# Altium footprint library Socket.PcbLib: 3 footprints
Each footprint in its own frame and in the unit in brackets; x right, y up, seen from the top. Pads: shape width x height; smd on the part's side, far side on the other; paste and mask are expansions set on the pad; w line width, h text height; cw(c..) or ccw(c..) is an arc to the next point about the centre after c.
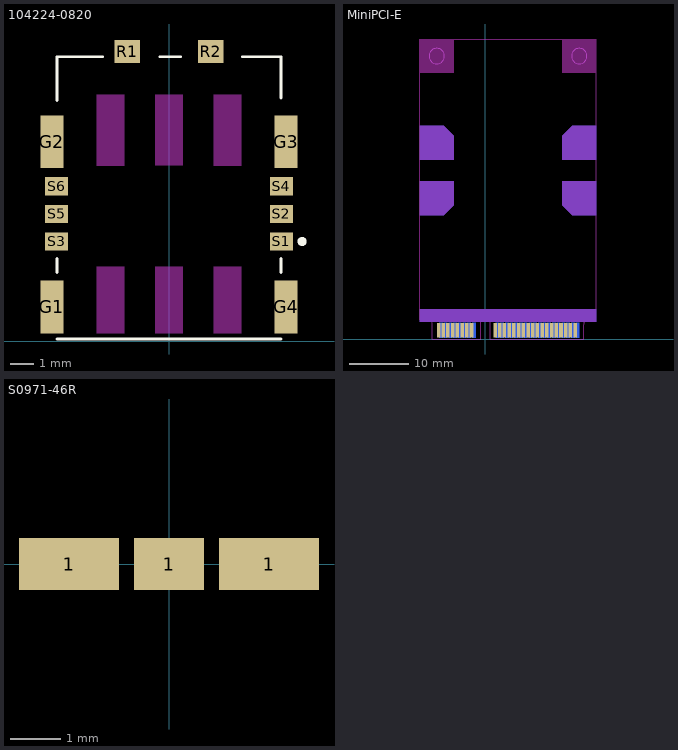
[diagram p0: the footprints below, top view; thin cyan lines are the x and y axes]

## 104224-0820 [mm]
pads (12):
  rect 1x2.3 smd: G1(-5.1,1.5) G2(-5.1,8.7) G3(5.1,8.7) G4(5.1,1.5)
  rect 1.1x1 smd: R1(-1.82,12.625) R2(1.82,12.625)
  rect 1x0.8 smd: S1(4.9,4.35) S2(4.9,5.55) S3(-4.9,4.35) S4(4.9,6.75) S5(-4.9,5.55) S6(-4.9,6.75)
Top Layer keep-out:
  region: 3.14,7.652 1.94,7.652 1.94,10.75 3.14,10.75
  region: 0.6,7.663 -0.601,7.663 -0.601,10.75 0.6,10.75
  region: -1.94,7.656 -3.142,7.656 -3.142,10.75 -1.94,10.75
  region: -1.94,0.351 -3.146,0.351 -3.146,3.25 -1.94,3.25
  region: 0.6,0.35 -0.601,0.35 -0.601,3.25 0.6,3.25
  region: 3.14,0.351 1.943,0.351 1.943,3.25 3.14,3.25
Top Overlay:
  circle w0.2: c5.8,4.35 r0.1
  lines w0.127: -4.875,0.1 4.875,0.1 ; -4.875,3 -4.875,3.6 ; -4.875,10.5 -4.875,12.4 -2.9,12.4 ; -0.4,12.4 0.5,12.4 ; 3.2,12.4 4.875,12.4 4.875,10.6 ; 4.875,3 4.875,3.6
3D body "1042240820.stp": height 1.13, standoff 0.02, extent -5.175,0.127 5.175,12.677

## MiniPCI-E [mm]
pads (52):
  rect 0.6x2.5 smd: 1(-7.95,1.5) 3(-7.15,1.5) 5(-6.35,1.5) 7(-5.55,1.5) 9(-4.75,1.5) 11(-3.95,1.5) 13(-3.15,1.5) 15(-2.35,1.5) 17(1.65,1.5) 19(2.45,1.5) 21(3.25,1.5) 23(4.05,1.5) 25(4.85,1.5) 27(5.65,1.5) 29(6.45,1.5) 31(7.25,1.5) 33(8.05,1.5) 35(8.85,1.5) 37(9.65,1.5) 39(10.45,1.5) 41(11.25,1.5) 43(12.05,1.5) 45(12.85,1.5) 47(13.65,1.5) 49(14.45,1.5) 51(15.25,1.5)
  rect 0.6x2.5 smd far side: 2(-7.55,1.5) 4(-6.75,1.5) 6(-5.95,1.5) 8(-5.15,1.5) 10(-4.35,1.5) 12(-3.55,1.5) 14(-2.75,1.5) 16(-1.95,1.5) 18(2.05,1.5) 20(2.85,1.5) 22(3.65,1.5) 24(4.45,1.5) 26(5.25,1.5) 28(6.05,1.5) 30(6.85,1.5) 32(7.65,1.5) 34(8.45,1.5) 36(9.25,1.5) 38(10.05,1.5) 40(10.85,1.5) 42(11.65,1.5) 44(12.45,1.5) 46(13.25,1.5) 48(14.05,1.5) 50(14.85,1.5) 52(15.65,1.5)
Top Layer keep-out:
  rectangle: -0.8,2.9 0.8,4.2
  rectangle: -9.05,2.9 -0.8,3.2
  region: 18.85,3.2 0.8,3.2 0.8,2.9 18.85,2.9
Bottom Layer keep-out:
  rectangle: -11.15,2.9 18.85,5.1
  region: 18.85,26.8 13.05,26.8 13.05,22.7 14.75,21 18.85,21
  region: 18.85,30.45 13.05,30.45 13.05,34.55 14.75,36.25 18.85,36.25
  region: -11.15,26.8 -5.35,26.8 -5.35,22.7 -7.05,21 -11.15,21
  region: -11.15,30.45 -5.35,30.45 -5.35,34.55 -7.05,36.25 -11.15,36.25
Keep-Out Layer:
  rectangle: -11.15,45.15 -5.35,50.95
  rectangle: 13.05,45.15 18.85,50.95
  lines w0.1: -9,2.45 -9,0 -0.8,0 -0.8,3.2 cw(c0,3.2) 0.8,3.2 0.8,0 16.7,0 16.7,2.45 ; -9,2.5 ccw(c-9.8,2.5) -9.8,3.3 -11.15,3.3 -11.15,50.95 18.85,50.95 18.85,3.3 17.5,3.3 ccw(c17.5,2.5) 16.7,2.5 ; -0.8,3.3 -0.8,3.3
Mechanical 15:
  circle w0.1: c15.95,48.05 r1.3
  circle w0.1: c-8.25,48.05 r1.3

## S0971-46R [mm]
pads (3):
  rect 2x1.05 smd: 1(-2,0) 1(2,0)
  rect 1.4x1.05 smd: 1(0,0)
3D body "s0971-46.stp": height 2, standoff 0, extent -2.9,-0.5 2.9,0.5